# Altium schematic symbol library CON-3.SchLib: 1 symbol
Pins are listed as number, name and electrical type; pins without a type are passive.

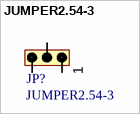
[diagram p0: symbol JUMPER2.54-3]

## JUMPER2.54-3
designator JP?
pins: 1, 2, 3
1 alternate drawing of the same symbol